# EAGLE library part W65C02 (library pda)
8-bit microprocessor based on MOS 6502.
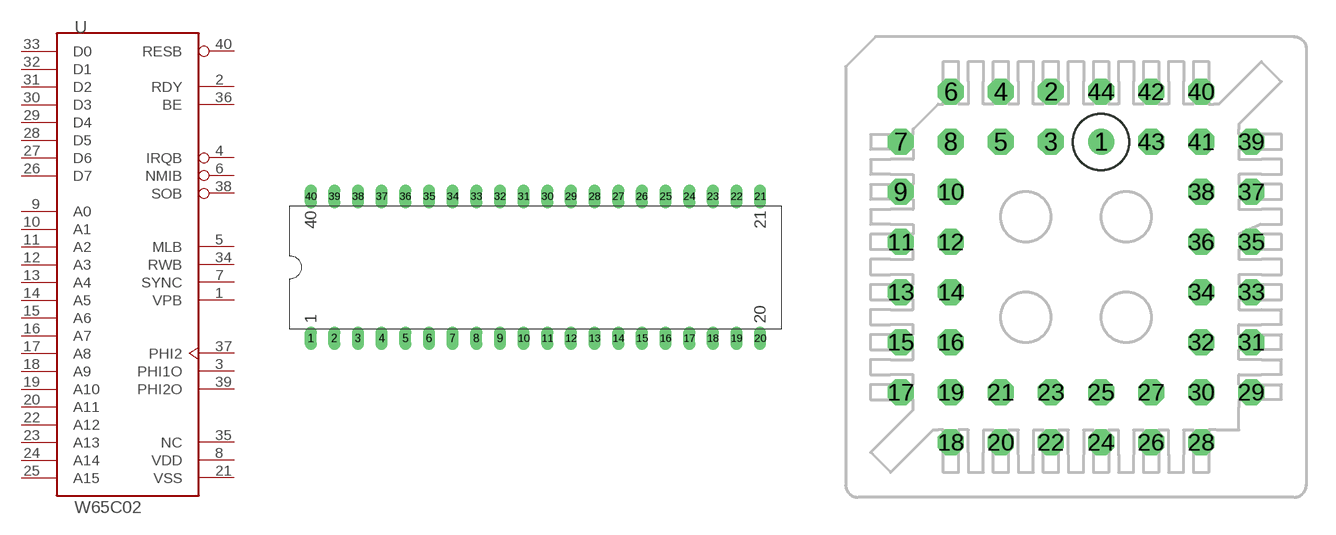
[diagram p0: symbol with the pads of DIP40; footprints DIP40, PLCC44-SOCKET]

Designator prefix U

## W65C02DIP40  [DIP40]
1  VPB  out
2  RDY  in
3  PHI1O  out
4  IRQB  in
5  MLB  out
6  NMIB  in
7  SYNC  out
8  VDD  pwr
9  A0  out
10  A1  out
11  A2  out
12  A3  out
13  A4  out
14  A5  out
15  A6  out
16  A7  out
17  A8  out
18  A9  out
19  A10  out
20  A11  out
21  VSS  pwr
22  A12  out
23  A13  out
24  A14  out
25  A15  out
26  D7
27  D6
28  D5
29  D4
30  D3
31  D2
32  D1
33  D0
34  RWB  out
35  NC  nc
36  BE  in
37  PHI2  in
38  SOB  in
39  PHI2O  out
40  RESB  in

## W65C02PLCC44  [PLCC44-SOCKET]
1  VSS  pwr
2  VPB  out
3  RDY  in
4  PHI1O  out
5  IRQB  in
6  MLB  out
7  NMIB  in
8  SYNC  out
9  VDD  pwr
10  A0  out
11  A1  out
12  NC  nc
13  A2  out
14  A3  out
15  A4  out
16  A5  out
17  A6  out
18  A7  out
19  A8  out
20  A9  out
21  A10  out
22  A11  out
23  VSS  pwr
24  VSS  pwr
25  A12  out
26  A13  out
27  A14  out
28  A15  out
29  D7
30  D6
31  D5
32  D4
33  D3
34  D2
35  D1
36  D0
37  VDD  pwr
38  RWB  out
39  NC  nc
40  BE  in
41  PHI2  in
42  SOB  in
43  PHI2O  out
44  RESB  in

## Footprint DIP40 (pad centres in mm)
drill 0.61 pad 1.27 long: 1 -24.13,-7.62; 2 -21.59,-7.62; 3 -19.05,-7.62; 4 -16.51,-7.62; 5 -13.97,-7.62; 6 -11.43,-7.62; 7 -8.89,-7.62; 8 -6.35,-7.62; 9 -3.81,-7.62; 10 -1.27,-7.62; 11 1.27,-7.62; 12 3.81,-7.62; 13 6.35,-7.62; 14 8.89,-7.62; 15 11.43,-7.62; 16 13.97,-7.62; 17 16.51,-7.62; 18 19.05,-7.62; 19 21.59,-7.62; 20 24.13,-7.62; 21 24.13,7.62; 22 21.59,7.62; 23 19.05,7.62; 24 16.51,7.62; 25 13.97,7.62; 26 11.43,7.62; 27 8.89,7.62; 28 6.35,7.62; 29 3.81,7.62; 30 1.27,7.62; 31 -1.27,7.62; 32 -3.81,7.62; 33 -6.35,7.62; 34 -8.89,7.62; 35 -11.43,7.62; 36 -13.97,7.62; 37 -16.51,7.62; 38 -19.05,7.62; 39 -21.59,7.62; 40 -24.13,7.62

## Footprint PLCC44-SOCKET (pad centres in mm)
drill 0.813: 1 1.27,5.08
drill 0.813 octagon: 2 -1.27,7.62; 3 -1.27,5.08; 4 -3.81,7.62; 5 -3.81,5.08; 6 -6.35,7.62; 7 -8.89,5.08; 8 -6.35,5.08; 9 -8.89,2.54; 10 -6.35,2.54; 11 -8.89,0; 12 -6.35,0; 13 -8.89,-2.54; 14 -6.35,-2.54; 15 -8.89,-5.08; 16 -6.35,-5.08; 17 -8.89,-7.62; 18 -6.35,-10.16; 19 -6.35,-7.62; 20 -3.81,-10.16; 21 -3.81,-7.62; 22 -1.27,-10.16; 23 -1.27,-7.62; 24 1.27,-10.16; 25 1.27,-7.62; 26 3.81,-10.16; 27 3.81,-7.62; 28 6.35,-10.16; 29 8.89,-7.62; 30 6.35,-7.62; 31 8.89,-5.08; 32 6.35,-5.08; 33 8.89,-2.54; 34 6.35,-2.54; 35 8.89,0; 36 6.35,0; 37 8.89,2.54; 38 6.35,2.54; 39 8.89,5.08; 40 6.35,7.62; 41 6.35,5.08; 42 3.81,7.62; 43 3.81,5.08; 44 1.27,7.62